# Altium schematic symbol library Audio IO Switch - SchLib.SchLib: 2 symbols
Pins are listed as number, name and electrical type; pins without a type are passive.

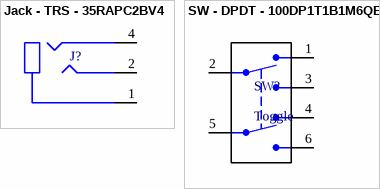
[diagram p0: symbols Jack - TRS - 35RAPC2BV4 to SW - DPDT - 100DP1T1B1M6QE]

## Jack - TRS - 35RAPC2BV4
designator J?  (value not drawn)
CONN JACK STEREO 3.5MM R/A; MFG: Switchcraft; MFG PN: 35RAPC2BV4; Signal Lines: Stereo (3 Conductor, TRS); Gender: Female; Connector Type: Phone Jack; Industry Recognized Mating Diameter: 3.50mm (0.141"", 1/8"", Mini Plug) - Headphone; Actual Diameter: 0.142"" (3.60mm); Number of Positions/Contacts: 3 Conductors, 3 Contacts; Internal Switch(s): Does Not Contain Switch; Shielding: Unshielded; Includes: 3 pcs - 1 Connector, 1 Nut, 1 Washer; ComponentLink1Description: Datasheet; ComponentLink1URL: E:\!Projects\52 Audio IO Switch\Datasheets\Switchcraft - TRS - 35RAPC2BV4.pdf; ComponentLink2Description: Online Datasheet; ComponentLink2URL: https://www.switchcraft.com/Drawings/35rapc__v4_cd.pdf; Digi-Key PN: Switchcraft Inc.; Mounting Type: Panel Mount, Through Hole, Right Angle; Features: Mounting Hardware, Thread Lock; Housing Material: Polybutylene Terephthalate (PBT), Glass Filled
footprint Jack - TRS - MJ-3502 (from CP-3502MJ-ND)
pins: 1, 2, 4

## SW - DPDT - 100DP1T1B1M6QE
designator SW?, comment Toggle
SWITCH TOGGLE DPDT 5A 120V; MFG: E-Switch; MFG PN: 100DP1T1B1M6QE; Switch Function: On-On; Op Temp: -30°C ~ 85°C; Electrical Life: 40,000 Cycles; Voltage Rating - DC: 28V; ComponentLink1Description: Datasheet; ComponentLink1URL: E:\!Projects\52 Audio IO Switch\Datasheets\E-Switch - 100DP1T1B1M6QE.pdf; ComponentLink2Description: Online Datasheet; ComponentLink2URL: http://spec_sheets.e-switch.com/specs/T121059.pdf; Digi-Key PN: 100DP1T1B1M6QE-ND; Circuit: DPDT; Mounting Type: Panel Mount, Right Angle; Series: 100; Panel Cutout Dimensions: Circular - 6.35mm Dia; Bushing Thread: 1/4-40
footprint SW - toggle - RA - 100DP1T1B1M6QE (from 100DP1T1B1M6QE-ND)
pins: 1, 2, 3, 4, 5, 6